# EAGLE library part MICRO-SD-CARD (library parts)
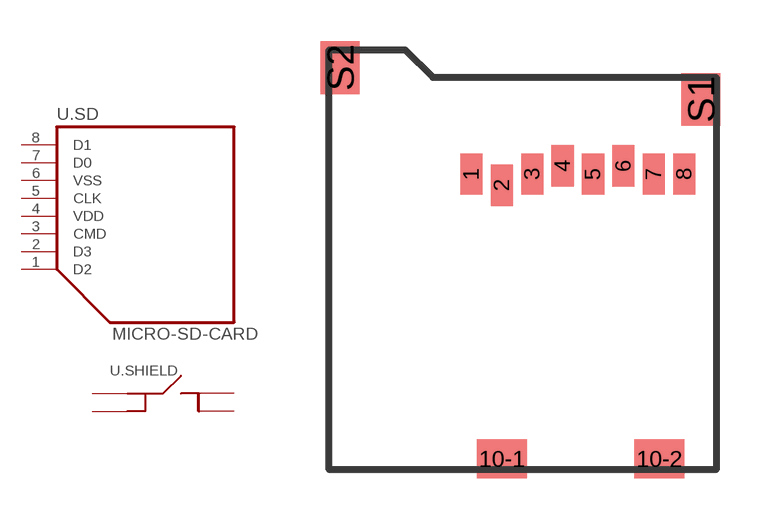
[diagram p14: symbol with the pads of SD-MICRO-101-00581-59; footprint SD-MICRO-101-00581-59]

Designator prefix U; gates .SD=MICRO-SDCARD .SHIELD=SWITCH-2-2

## MICRO-SD-CARD-AMP-1010058159  [SD-MICRO-101-00581-59]
1  .SD:D2
2  .SD:D3
3  .SD:CMD  out
4  .SD:VDD  pwr
5  .SD:CLK
6  .SD:VSS  pwr
7  .SD:D0
8  .SD:D1
10-1  .SHIELD:SA1  pas
10-2  .SHIELD:SA2  pas
S1  .SHIELD:SB1  pas
S2  .SHIELD:SB2  pas

## Footprint SD-MICRO-101-00581-59 (pad centres in mm)
smd 0.8 x 1.5: 1 0,0; 2 1.1,-0.4; 3 2.2,0; 4 3.3,0.3; 5 4.4,0; 6 5.5,0.3; 7 6.6,0; 8 7.7,0
smd 1.8 x 1.4: 10-1 1.1,-10.3; 10-2 6.8,-10.3
smd 1.4 x 1.9: S1 8.3,2.7; S2 -4.75,3.85